# EAGLE library part SKQU (library ComputeCalculator)
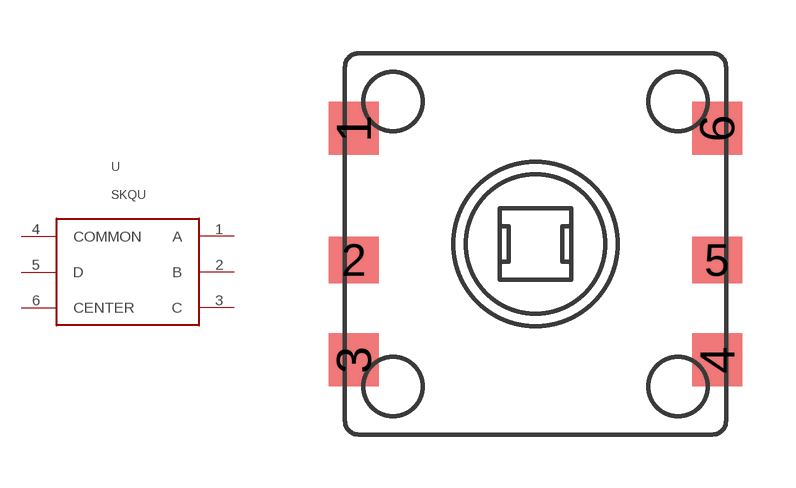
[diagram p5: symbol with the pads of SKQU; footprint SKQU]

Designator prefix -

## SKQU  [SKQU]
1  A
2  B
3  C
4  COMMON
5  D
6  CENTER

## Footprint SKQU (pad centres in mm)
smd 1.4 x 1.5: 1 -5.1,3.25; 3 -5.1,-3.25; 4 5.1,-3.25; 6 5.1,3.25
smd 1.4 x 1.3: 2 -5.1,-0.45; 5 5.1,-0.45